# Altium footprint library 9V.PcbLib: 1 footprints
Each footprint in its own frame and in the unit in brackets; x right, y up, seen from the top. Pads: shape width x height; smd on the part's side, far side on the other; paste and mask are expansions set on the pad; w line width, h text height; cw(c..) or ccw(c..) is an arc to the next point about the centre after c.
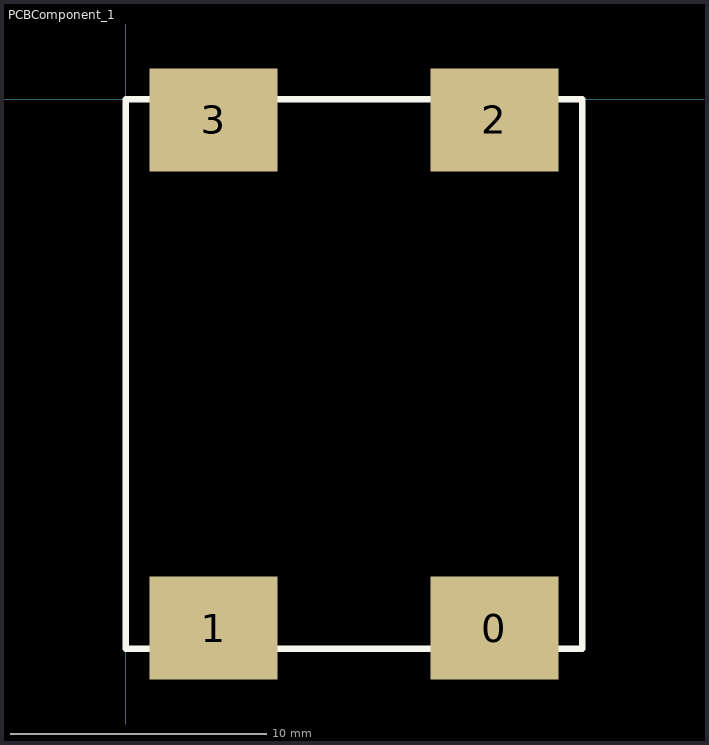
[diagram p0: the footprint, top view; thin cyan lines are the x and y axes]

## PCBComponent_1 [mm]
pads (4):
  rect 5x4 all layers, no hole: 0(14.375,-20.6) 1(3.425,-20.6) 2(14.375,-0.8) 3(3.425,-0.8)
Top Overlay:
  lines w0.254: 0,-21.4 0,0 17.8,0 17.8,-21.4 0,-21.4